# Altium footprint library 5015681207.PcbLib: 1 footprints
Each footprint in its own frame and in the unit in brackets; x right, y up, seen from the top. Pads: shape width x height; smd on the part's side, far side on the other; paste and mask are expansions set on the pad; w line width, h text height; cw(c..) or ccw(c..) is an arc to the next point about the centre after c.
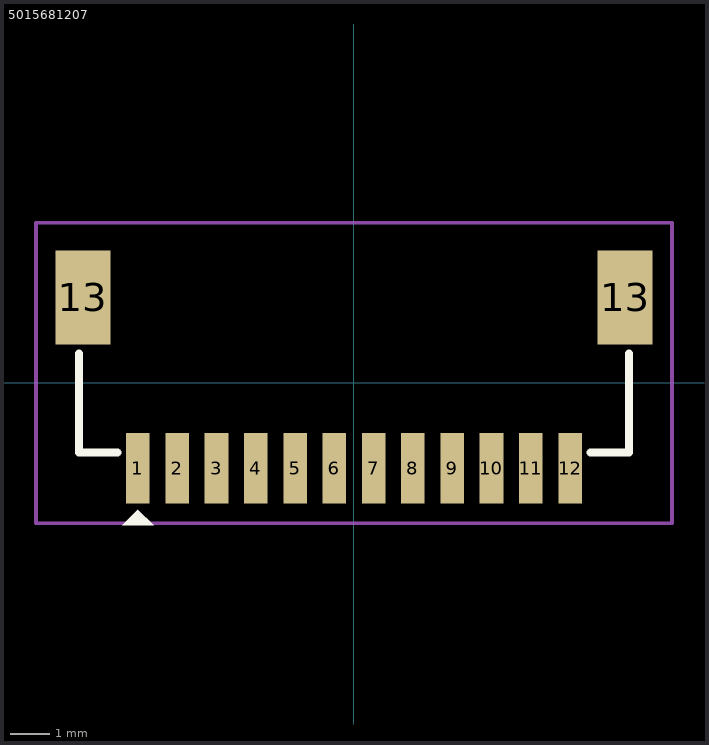
[diagram p0: the footprint, top view; thin cyan lines are the x and y axes]

## 5015681207 [mm]
pads (14):
  rect 0.6x1.8 smd: 1(-5.5,-2.175) 2(-4.5,-2.175) 3(-3.5,-2.175) 4(-2.5,-2.175) 5(-1.5,-2.175) 6(-0.5,-2.175) 7(0.5,-2.175) 8(1.5,-2.175) 9(2.5,-2.175) 10(3.5,-2.175) 11(4.5,-2.175) 12(5.5,-2.175)
  rect 1.4x2.4 smd: 13(-6.9,2.175) 13(6.9,2.175)
Top Overlay:
  region: -5.1,-3.625 -5.9,-3.625 -5.5,-3.225
  lines w0.2: -7,0.75 -7,-1.775 -6.025,-1.775 ; 6.025,-1.775 7,-1.775 7,0.75
Top Courtyard:
  lines w0.1: -8.1,3.375 -8.1,4.075 ; -7,4.075 -8.1,4.075 ; -4.475,-3.575 -8.1,-3.575 ; 7,4.075 8.1,4.075 ; 8.1,3.275 8.1,4.075 ; -8.1,-3.575 8.1,-3.575 8.1,4.075 ; -8.1,-3.575 -8.1,4.075 ; -8.1,4.075 8.1,4.075
3D body "5015681207.stp": height 4.7, standoff 0, extent -7,-2.325 7,3.575